# EAGLE library part IMCV4 (library con-phoenix-381_l)
Invertierter Mini-Combicon 3.81mm vertikal 4-polig IMCV 1,5/4-G-3,81 (ohne Gegenstecker)
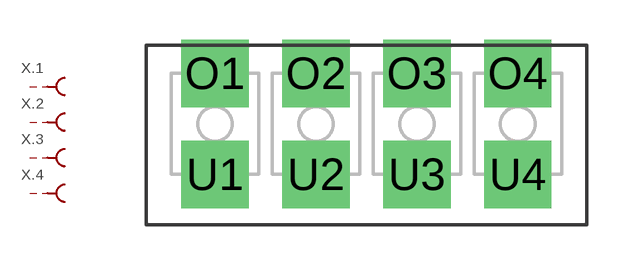
[diagram p34: symbol with the pads of IMCV4; footprint IMCV4]

Designator prefix X; gates .2=MCBU .1=MCBU .3=MCBU .4=MCBU

## IMCV4  [IMCV4]
O1  .1:S  pas
O2  .2:S  pas
O3  .3:S  pas
O4  .4:S  pas
U1  .1:SK  pas
U2  .2:SK  pas
U3  .3:SK  pas
U4  .4:SK  pas

## Footprint IMCV4 (pad centres in mm)
Mini-Combicon 3.81mm vertical 4-polig invertiert (ohne Gegenstecker)
drill 1.27 pad 2.54 square: O1 -5.715,1.905; O2 -1.905,1.905; O3 1.905,1.905; O4 5.715,1.905; U1 -5.715,-1.905; U2 -1.905,-1.905; U3 1.905,-1.905; U4 5.715,-1.905